# Altium footprint library LYDZ.PcbLib: 231 footprints (part 11 of 15)
Each footprint in its own frame and in the unit in brackets; x right, y up, seen from the top. Pads: shape width x height; smd on the part's side, far side on the other; paste and mask are expansions set on the pad; w line width, h text height; cw(c..) or ccw(c..) is an arc to the next point about the centre after c.
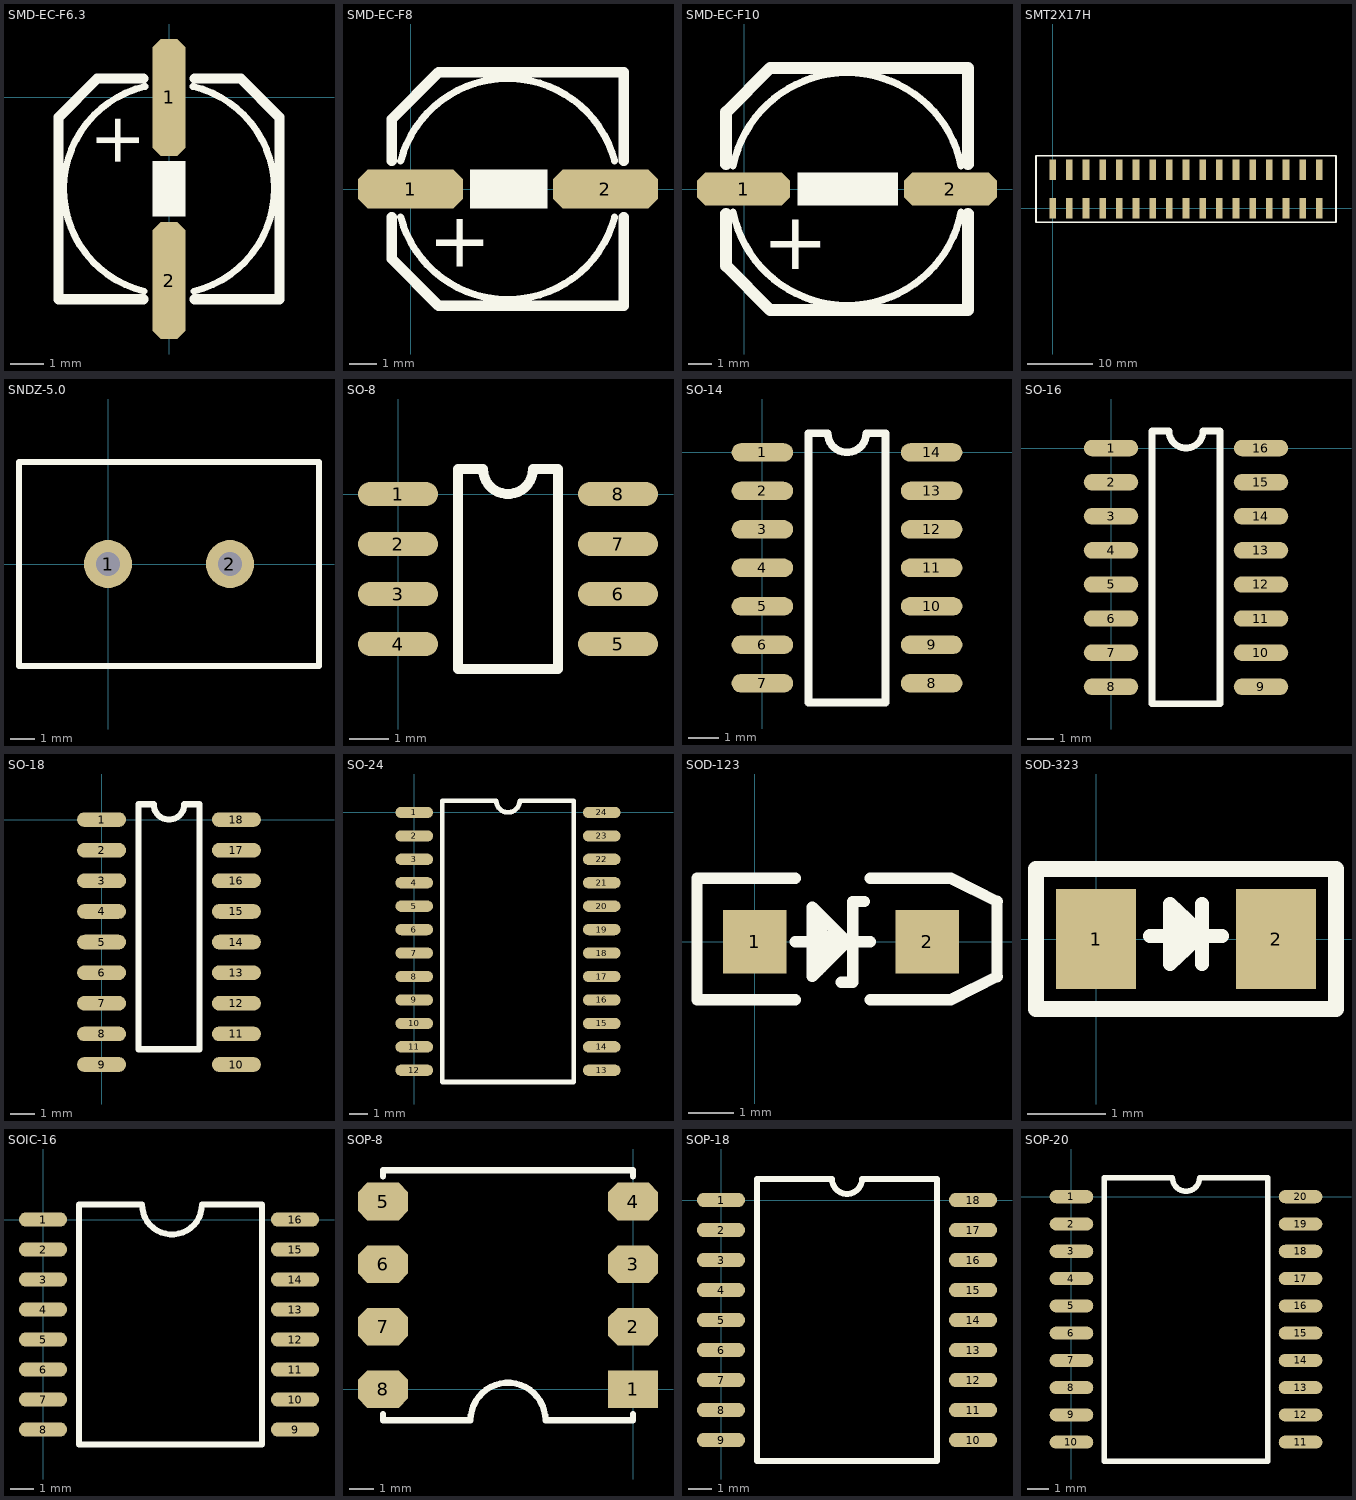
[diagram p10: the footprints below, top view; thin cyan lines are the x and y axes]

## SMD-EC-F6.3 [mm]
pads (2):
  oct 1x3.5 smd: 1(0,0) 2(0,-5.475)
Top Overlay:
  region: -0.496,-1.905 -0.496,-3.556 0.5,-3.556 0.5,-1.905
  lines w0.203: -0.75,-5.795 cw(c0.002,-2.736) -0.712,0.332 ; 0.712,0.332 cw(c-0.002,-2.736) 0.75,-5.795
  lines w0.305: -3.305,-0.589 -3.305,-6.036 -0.762,-6.036 ; -3.303,-0.587 -2.152,0.564 -0.762,0.564 ; 0.762,-6.036 3.305,-6.036 3.305,-0.589 ; 0.762,0.564 2.152,0.564 3.303,-0.587
  text "+" at -2.164,-0.43 h1.5

## SMD-EC-F8 [mm]
pads (2):
  oct 3.8x1.4 smd: 1(0,0) 2(7.051,0)
Top Overlay:
  rectangle: 2.159,-0.7 4.953,0.7
  lines w0.254: -0.355,-1.009 ccw(c3.515,0) 7.383,-1.02 ; -0.355,1.009 cw(c3.515,0) 7.383,1.02
  lines w0.381: -0.686,-1.016 -0.686,-2.52 1.013,-4.219 7.714,-4.219 7.714,-1.016 ; -0.686,1.016 -0.686,2.52 1.013,4.219 7.714,4.219 7.714,1.016
  text "+" at 0.64,-2.818 h2

## SMD-EC-F10 [mm]
pads (2):
  oct 4x1.4 smd: 1(-0.03,0) 2(8.86,0)
Top Overlay:
  rectangle: 2.286,-0.701 6.604,0.707
  lines w0.305: -0.48,-0.985 ccw(c4.422,0) 9.321,-1 ; -0.48,0.985 cw(c4.422,0) 9.321,1
  lines w0.508: -0.778,-1.067 -0.778,-3.304 1.12,-5.201 9.62,-5.201 9.62,-1.067 ; -0.778,1.067 -0.778,3.304 1.12,5.201 9.62,5.201 9.62,1.067
  text "+" at 0.78,-3.44 h2.5

## SMT2X17H [mm] "Connector; Header; 17x2 Position; Right Angle"
pads (34):
  rect 1.02x3.17 smd: 1(0,0) 2(0,5.842) 3(2.54,0) 4(2.54,5.842) 5(5.08,0) 6(5.08,5.842) 7(7.62,0) 8(7.62,5.842) 9(10.16,0) 10(10.16,5.842) 11(12.7,0) 12(12.7,5.842) 13(15.24,0) 14(15.24,5.842) 15(17.78,0) 16(17.78,5.842) 17(20.32,0) 18(20.32,5.842) 19(22.86,0) 20(22.86,5.842) 21(25.4,0) 22(25.4,5.842) 23(27.94,0) 24(27.94,5.842) 25(30.48,0) 26(30.48,5.842) 27(33.02,0) 28(33.02,5.842) 29(35.56,0) 30(35.56,5.842) 31(38.1,0) 32(38.1,5.842) 33(40.64,0) 34(40.64,5.842)
Top Overlay:
  lines w0.254: -2.54,-2.159 43.18,-2.159 43.18,8.001 -2.54,8.001 -2.54,-2.159

## SNDZ-5.0 [mm]
pads (2):
  round 2 hole 1: 1(0,0) 2(5.08,0)
Top Overlay:
  lines w0.254: -3.71,-4.25 -3.71,4.25 8.79,4.25 8.79,-4.25 -3.71,-4.25

## SO-8 [mil]
pads (8):
  oval 80x24 smd: 1(0,0) 2(0,-50) 3(0,-100) 4(0,-150) 5(220,-150) 6(220,-100) 7(220,-50) 8(220,0)
Top Overlay:
  lines w10: 60,-175 60,25 85,25 ccw(c110,25) 135,25 160,25 160,-175 60,-175

## SO-14 [mil]
pads (14):
  oval 80x24 smd: 1(0,0) 2(0,-50) 3(0,-100) 4(0,-150) 5(0,-200) 6(0,-250) 7(0,-300) 8(220,-300) 9(220,-250) 10(220,-200) 11(220,-150) 12(220,-100) 13(220,-50) 14(220,0)
Top Overlay:
  lines w10: 60,-325 160,-325 160,25 135,25 cw(c110,25) 85,25 60,25 60,-325

## SO-16 [mil]
pads (16):
  oval 80x24 smd: 1(0,0) 2(0,-50) 3(0,-100) 4(0,-150) 5(0,-200) 6(0,-250) 7(0,-300) 8(0,-350) 9(220,-350) 10(220,-300) 11(220,-250) 12(220,-200) 13(220,-150) 14(220,-100) 15(220,-50) 16(220,0)
Top Overlay:
  lines w10: 60,-375 60,25 85,25 ccw(c110,25) 135,25 160,25 160,-375 60,-375

## SO-18 [mil]
pads (18):
  oval 80x24 smd: 1(0,0) 2(0,-50) 3(0,-100) 4(0,-150) 5(0,-200) 6(0,-250) 7(0,-300) 8(0,-350) 9(0,-400) 10(220,-400) 11(220,-350) 12(220,-300) 13(220,-250) 14(220,-200) 15(220,-150) 16(220,-100) 17(220,-50) 18(220,0)
Top Overlay:
  lines w10: 60,-375 60,25 85,25 ccw(c110,25) 135,25 160,25 160,-375 60,-375

## SO-24 [mil]
pads (24):
  oval 80x24 smd: 1(0,0) 2(0,-50) 3(0,-100) 4(0,-150) 5(0,-200) 6(0,-250) 7(0,-300) 8(0,-350) 9(0,-400) 10(0,-450) 11(0,-500) 12(0,-550) 13(400,-550) 14(400,-500) 15(400,-450) 16(400,-400) 17(400,-350) 18(400,-300) 19(400,-250) 20(400,-200) 21(400,-150) 22(400,-100) 23(400,-50) 24(400,0)
Top Overlay:
  lines w10: 60,-575 340,-575 340,25 225,25 cw(c200,25) 175,25 60,25 60,-575

## SOD-123 [mm]
pads (2):
  rect 1.4x1.4 smd: 1(0,0) 2(3.8,0)
Top Overlay:
  lines w0.25: -1.27,-1.016 -1.27,1.016 ; 0.889,-1.27 -1.27,-1.27 -1.27,0 -1.27,1.397 0.889,1.397 ; 0.889,0 1.27,0 ; 1.396,-0.636 1.512,-0.52 ; 1.476,-0.556 1.476,0.485 ; 1.651,0.127 1.651,-0.115 1.512,-0.254 1.873,0.107 1.873,0.159 ; 1.905,-0.889 2.159,-0.889 2.159,0.889 2.413,0.889 ; 2.159,0 2.54,0 ; 2.54,-1.27 4.318,-1.27 ; 2.54,1.397 4.318,1.397 ; 5.334,-0.762 5.334,0.889 ; 1.27,-0.762 1.27,0.762 2.027,0.005 2.027,-0.005 1.27,-0.762
  lines w0.254: 4.318,-1.27 5.334,-0.762 ; 4.318,1.397 5.334,0.889

## SOD-323 [mil]
pads (2):
  rect 40x50 smd: 1(0,0) 2(90,0)
Top Overlay:
  rectangle: 37,-5.53 47,12.47
  lines w7: 27,1.46 62.99,1.46 ; 53,-12.54 53,17.46 ; 37,-12.54 53,2.46 37,17.46 37,-12.54
  lines w8: -30,-35 120,-35 120,35 -30,35 -30,-35

## SOIC-16 [mil]
pads (16):
  oval 80x24 smd: 1(0,0) 2(0,-50) 3(0,-100) 4(0,-150) 5(0,-200) 6(0,-250) 7(0,-300) 8(0,-350) 9(420,-350) 10(420,-300) 11(420,-250) 12(420,-200) 13(420,-150) 14(420,-100) 15(420,-50) 16(420,0)
Top Overlay:
  lines w10: 60,-375 365,-375 365,25 265,25 cw(c215,25) 165,25 60,25 60,-375

## SOP-8 [mil]
pads (8):
  rect 80x60 smd: 1(0,0)
  oct 80x60 smd: 2(0,100) 3(0,200) 4(0,300) 5(-400,300) 6(-400,200) 7(-400,100) 8(-400,0)
Top Overlay:
  lines w10: -400,-40 -400,-50 -260,-50 cw(c-200,-50) -140,-50 0,-50 0,-40 ; -400,340 -400,350 0,350 0,340

## SOP-18 [mil]
pads (18):
  oval 80x24 smd: 1(0,0) 2(0,-50) 3(0,-100) 4(0,-150) 5(0,-200) 6(0,-250) 7(0,-300) 8(0,-350) 9(0,-400) 10(420,-400) 11(420,-350) 12(420,-300) 13(420,-250) 14(420,-200) 15(420,-150) 16(420,-100) 17(420,-50) 18(420,0)
Top Overlay:
  lines w10: 60,-435 360,-435 360,35 235,35 cw(c210,35) 185,35 60,35 60,-435

## SOP-20 [mil]
pads (20):
  oval 80x24 smd: 1(0,0) 2(0,-50) 3(0,-100) 4(0,-150) 5(0,-200) 6(0,-250) 7(0,-300) 8(0,-350) 9(0,-400) 10(0,-450) 11(420,-450) 12(420,-400) 13(420,-350) 14(420,-300) 15(420,-250) 16(420,-200) 17(420,-150) 18(420,-100) 19(420,-50) 20(420,0)
Top Overlay:
  lines w10: 60,-485 360,-485 360,35 235,35 cw(c210,35) 185,35 60,35 60,-485